# Altium footprint library CONN_TP_SMD.PcbLib: 1 footprints
Each footprint in its own frame and in the unit in brackets; x right, y up, seen from the top. Pads: shape width x height; smd on the part's side, far side on the other; paste and mask are expansions set on the pad; w line width, h text height; cw(c..) or ccw(c..) is an arc to the next point about the centre after c.
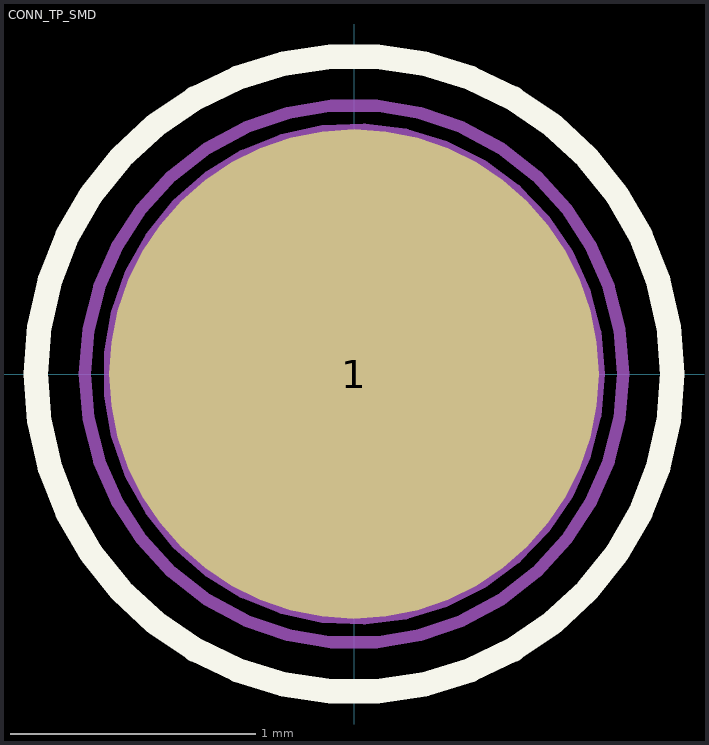
[diagram p0: the footprint, top view; thin cyan lines are the x and y axes]

## CONN_TP_SMD [mm]
pads (1):
  round 2 smd: 1(0,0)
Top Overlay:
  circle w0.1: c0,0 r1.3
Top Assembly:
  circle w0.05: c0,0 r1
  text ".designator" at -0.596,-0.104 h0.25
Top Courtyard:
  circle w0.05: c0,0 r1.1
  lines w0.1: -0.254,0 0.254,0 ; 0,-0.254 0,0.254